# Altium schematic symbol library XS_6P.Schlib: 1 symbol
Pins are listed as number, name and electrical type; pins without a type are passive.

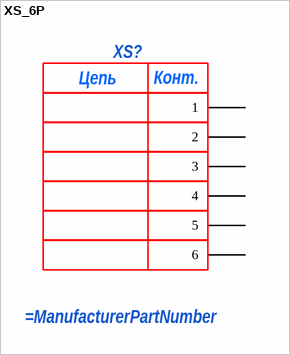
[diagram p0: symbol XS_6P]

## XS_6P
designator XS?
pins: 1, 2, 3, 4, 5, 6
text: Цепь; Конт.